# Altium schematic symbol library ic-amplifier.SchLib: 11 symbols
Pins are listed as number, name and electrical type; pins without a type are passive.

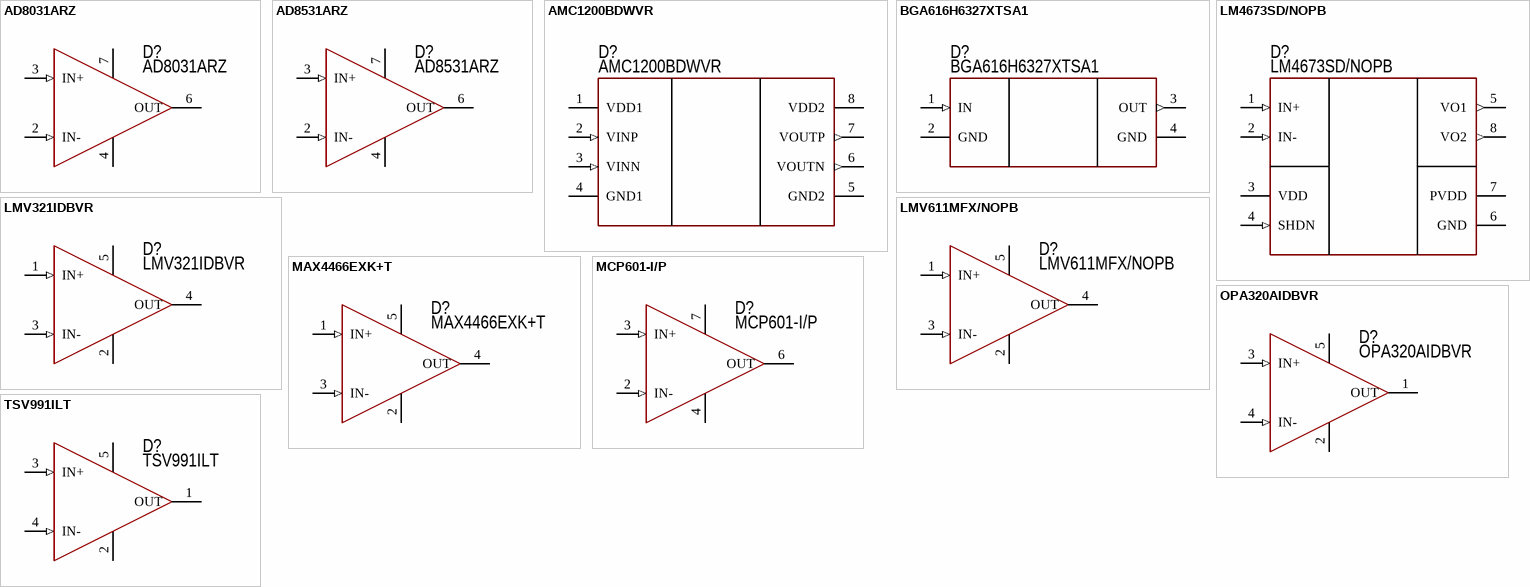
[diagram p0: symbols AD8031ARZ to TSV991ILT]

## AD8031ARZ
designator D?  PartNumber: AD8031ARZ
OP amplifier Rail-to-Rail 80MHz; Manufacturer: Analog Devices Inc.; ValueManufacturerPartNumber: IC op amplifier, Rail-to-Rail, 80MHz, 2.7V ~ 12V, ±1.35V ~ 6V, -40°C ~ 85°C, 8-SOIC; Supply: 2.7V ~ 12V, ±1.35V ~ 6V; Slew Rate: 35V/µs; HelpURL: https://www.chipdip.ru/product/ad8031ar; Package: 8-SOIC; ComponentType: IC op amplifier; Temperature: -40°C ~ 85°C; OutputType: Rail-to-Rail; GainBandwidth: 80MHz
footprint 8-SOIC (pitch 1.27 mm)
pins: 2 IN- (in), 3 IN+ (in), 4 V- (power), 6 OUT (power), 7 V+ (power)

## AD8531ARZ
designator D?  PartNumber: AD8531ARZ
OP amplifier Rail-to-Rail 3MHz; Manufacturer: Analog Devices Inc.; ValueManufacturerPartNumber: IC op amplifier, Rail-to-Rail, 3MHz, 2.7V ~ 6V, ±1.35V ~3V, -40°C ~ 85°C, 8-SOIC; Supply: 2.7V ~ 6V, ±1.35V ~3V; Slew Rate: 3.5V/µs; HelpURL: https://www.chipdip.ru/product/ad8531arz; Package: 8-SOIC; ComponentType: IC op amplifier; Temperature: -40°C ~ 85°C; OutputType: Rail-to-Rail; GainBandwidth: 3MHz
footprint 8-SOIC (pitch 1.27 mm)
pins: 2 IN- (in), 3 IN+ (in), 4 V- (power), 6 OUT (power), 7 V+ (power)

## AMC1200BDWVR
designator D?  PartNumber: AMC1200BDWVR
Isolator amplifier; Manufacturer: Texas Instruments; ValueManufacturerPartNumber: IC isolator amplifier, Differential, 100 kHz, 2.7...5.5V, -40...+105°C, 8-SOIC; Supply: 2.7...5.5V; OutputType: Differential; GainBandwidth: 100 kHz; HelpURL: https://www.digikey.com/product-detail/en/texas-instruments/AMC1200BDWVR/296-39898-1-ND/5177775; Package: 8-SOIC; ComponentType: IC isolator amplifier; Temperature: -40...+105°C
footprint 8-SOIC-W (pitch 1.27 mm, isolator)
pins: 1 VDD1 (power), 2 VINP (in), 3 VINN (in), 4 GND1 (power), 5 GND2 (power), 6 VOUTN (out), 7 VOUTP (out), 8 VDD2 (power)

## BGA616H6327XTSA1
designator D?  PartNumber: BGA616H6327XTSA1
RF amplifier; Manufacturer: Texas Instruments; ValueManufacturerPartNumber: IC RF amplifier, 2.7 GHz, 19dB, -40...+125°C, SOT23-5; Gain: 19dB; Frequency: 2.7 GHz; HelpURL: https://www.digikey.com/product-detail/en/infineon-technologies/BGA616H6327XTSA1/BGA616H6327XTSA1CT-ND/2410159; Package: SOT23-5; ComponentType: IC RF amplifier; Temperature: -40...+125°C
footprint SOT343
pins: 1 IN (in), 2 GND, 3 OUT (out), 4 GND

## LM4673SD/NOPB
designator D?  PartNumber: LM4673SD/NOPB
Audio amplifier; Manufacturer: Texas Instruments; ValueManufacturerPartNumber: IC audio amplifier, Class D, 2.65W, 2.4...5.5V, -40...+85°C, 8-WSON; Supply: 2.4...5.5V; OutputType: Class D; OutputPower: 2.65W; HelpURL: https://www.digikey.com/product-detail/en/texas-instruments/LM4673SD-NOPB/LM4673SD-NOPBCT-ND/1207555; Package: 8-WSON; ComponentType: IC audio amplifier; Temperature: -40...+85°C
footprint 8-WSON (3x3) (3x3 mm, pitch 0.5 mm, power pad)
pins: 1 IN+ (in), 2 IN- (in), 3 VDD, 4 SHDN (in), 5 VO1 (out), 6 GND, 7 PVDD, 8 VO2 (out)

## LMV321IDBVR
designator D?  PartNumber: LMV321IDBVR
OP amplifier; Manufacturer: Texas Instruments; ValueManufacturerPartNumber: IC op amplifier, Rail-to-Rail, 1 MHz, 2.7...5.5V, -40...+125°C, SOT23-5; Supply: 2.7...5.5V; OutputType: Rail-to-Rail; GainBandwidth: 1 MHz; HelpURL: https://www.digikey.com/product-detail/en/texas-instruments/LMV321IDBVR/296-9567-1-ND/379849; Package: SOT23-5; ComponentType: IC op amplifier; Temperature: -40...+125°C
footprint SOT23-5 (pitch 0.95 mm)
pins: 1 IN+ (in), 2 V- (power), 3 IN- (in), 4 OUT (power), 5 V+ (power)

## LMV611MFX/NOPB
designator D?  PartNumber: LMV611MFX/NOPB
OP amplifier; Manufacturer: Texas Instruments; ValueManufacturerPartNumber: IC op amplifier, Rail-to-Rail, 1.5 MHz, 1.8...5.5V, -40...+125°C, SOT23-5; Supply: 1.8...5.5V; OutputType: Rail-to-Rail; GainBandwidth: 1.5 MHz; HelpURL: https://www.digikey.com/product-detail/en/texas-instruments/LMV611MFX-NOPB/296-47209-1-ND/7688219; Package: SOT23-5; ComponentType: IC op amplifier; Temperature: -40...+125°C
footprint SOT23-5 (pitch 0.95 mm)
pins: 1 IN+ (in), 2 V- (power), 3 IN- (in), 4 OUT (power), 5 V+ (power)

## MAX4466EXK+T
designator D?  PartNumber: MAX4466EXK+T
Microphone amplifier; Manufacturer: Maxim Integrated; ValueManufacturerPartNumber: IC microphone amplifier, Class AB, 20dB, 2.4...5.5V, -40...+85°C, SC70-5; Supply: 2.4...5.5V; OutputType: Class AB; Gain: 20dB; HelpURL: https://www.digikey.com/product-detail/en/maxim-integrated/MAX4466EXK-T/MAX4466EXK-CT-ND/5405773; Package: SC70-5; ComponentType: IC microphone amplifier; Temperature: -40...+85°C
footprint SC70-5 (pitch 0.95 mm)
pins: 1 IN+ (in), 2 V- (power), 3 IN- (in), 4 OUT (power), 5 V+ (power)

## MCP601-I/P
designator D?  PartNumber: MCP601-I/P
OP amplifier; Manufacturer: Microchip Technology; ValueManufacturerPartNumber: low-power operational amplifier, Rail-to-Rail, 2.8MHz, 2.7…5.5V, -40...+85°C, PDIP-8; Supply: 2.7…5.5V; OutputType: Rail-to-Rail; GainBandwidth: 2.8MHz; HelpURL: https://www.chipdip.ru/product/mcp601-i-p; Package: PDIP-8; ComponentType: low-power operational amplifier; Temperature: -40...+85°C
footprint 8-DIP
pins: 2 IN- (in), 3 IN+ (in), 4 V- (power), 6 OUT (power), 7 V+ (power)

## OPA320AIDBVR
designator D?  PartNumber: OPA320AIDBVR
OP amplifier; Manufacturer: Texas Instruments; ValueManufacturerPartNumber: IC op amplifier, Rail-to-Rail, 20 MHz, 1.8...5.5V, -40...+125°C, SOT23-5; Supply: 1.8...5.5V; OutputType: Rail-to-Rail; GainBandwidth: 20 MHz; HelpURL: https://www.digikey.com/product-detail/en/texas-instruments/OPA320AIDBVR/296-29480-1-ND/2747411; Package: SOT23-5; ComponentType: IC op amplifier; Temperature: -40...+125°C
footprint SOT23-5 (pitch 0.95 mm)
pins: 1 OUT (power), 2 V- (power), 3 IN+ (in), 4 IN- (in), 5 V+ (power)

## TSV991ILT
designator D?  PartNumber: TSV991ILT
OP amplifier; Manufacturer: STMicroelectronics; ValueManufacturerPartNumber: IC op amplifier, Rail-to-Rail, 20 MHz, 2.7...5.5V, -40...+125°C, SOT23-5; Supply: 2.7...5.5V; OutputType: Rail-to-Rail; GainBandwidth: 20 MHz; HelpURL: https://www.digikey.com/product-detail/en/stmicroelectronics/TSV991ILT/497-6001-1-ND/1578484; Package: SOT23-5; ComponentType: IC op amplifier; Temperature: -40...+125°C
footprint SOT23-5 (pitch 0.95 mm)
pins: 1 OUT (power), 2 V- (power), 3 IN+ (in), 4 IN- (in), 5 V+ (power)